# EAGLE library part MOSFET-P-2CH (library Dal_V2)
Si9933CDY 2 Channel MOSFET, P-Channel 20 Volt, >2 Amp Continuous, DS resistance < .095 ohms price=about $0.66 each
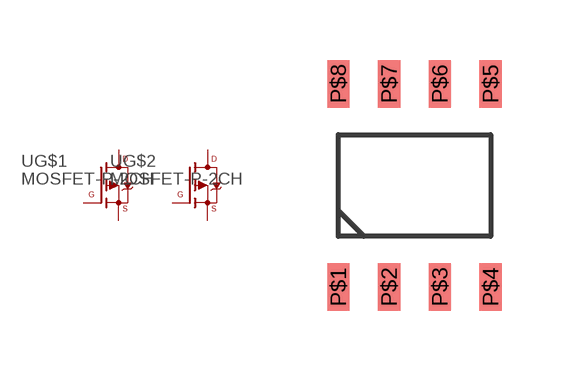
[diagram p25: symbol with the pads of SOIC-8; footprint SOIC-8]

Designator prefix U; gates G$1=MOSFET_P_ENHANCEMENT G$2=MOSFET_P_ENHANCEMENT

## MOSFET-P-2CH  [SOIC-8]
P$1  G$1:S  pas
P$2  G$1:G  pas
P$3  G$2:S  pas
P$4  G$2:G  pas
P$5  G$2:D  pas
P$6  G$2:D  pas
P$7  G$1:D  pas
P$8  G$1:D  pas

## Footprint SOIC-8 (pad centres in mm)
Standard SOIC-8 Takein From Si9933cdy from Vishay
smd 0.559 x 1.194: P$1 0,0; P$2 1.27,0; P$3 2.54,0; P$4 3.81,0; P$5 3.81,5.08; P$6 2.54,5.08; P$7 1.27,5.08; P$8 0,5.08